# EAGLE library part ICM-20948 (library Deegou_IC)
Multiple Function Sensor Modules World's Lowest Power 9-Axis MEMS MotionTracking Device Source: Datasheet <https://www.invensense.com/wp-content/uploads/2016/06/DS-000189-ICM-20948-v1.3.pdf>
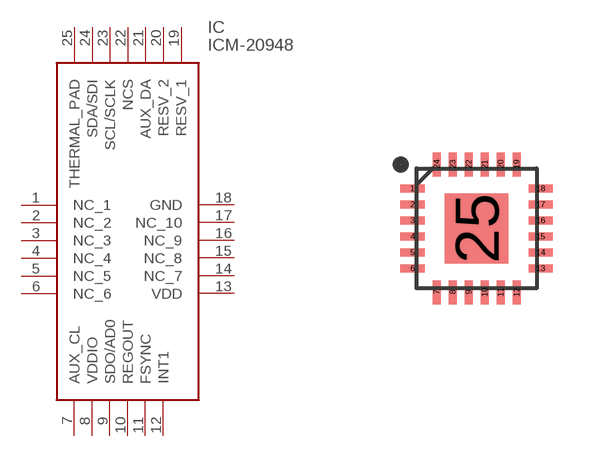
[diagram p51: symbol with the pads of QFN40P300X300X105-25N; footprint QFN40P300X300X105-25N]

Designator prefix IC

## ICM-20948 (ARROW_PART_NUMBER: ICM-20948; DESCRIPTION: Multiple Function Sensor Modules World's Lowest Power 9-Axis MEMS MotionTracking Device; HEIGHT: 1.05mm; MANUFACTURER_NAME: TDK InvenSense; MANUFACTURER_PART_NUMBER: ICM-20948)  [QFN40P300X300X105-25N]
1  NC_1
2  NC_2
3  NC_3
4  NC_4
5  NC_5
6  NC_6
7  AUX_CL
8  VDDIO
9  SDO/AD0
10  REGOUT
11  FSYNC
12  INT1
13  VDD
14  NC_7
15  NC_8
16  NC_9
17  NC_10
18  GND
19  RESV_1
20  RESV_2
21  AUX_DA
22  NCS
23  SCL/SCLK
24  SDA/SDI
25  THERMAL_PAD

## Footprint QFN40P300X300X105-25N (pad centres in mm)
QFN-24 - 3x3x0.9
smd 0.6 x 0.2: 1 -1.6,1; 2 -1.6,0.6; 3 -1.6,0.2; 4 -1.6,-0.2; 5 -1.6,-0.6; 6 -1.6,-1; 13 1.6,-1; 14 1.6,-0.6; 15 1.6,-0.2; 16 1.6,0.2; 17 1.6,0.6; 18 1.6,1
smd 0.2 x 0.6: 7 -1,-1.6; 8 -0.6,-1.6; 9 -0.2,-1.6; 10 0.2,-1.6; 11 0.6,-1.6; 12 1,-1.6; 19 1,1.6; 20 0.6,1.6; 21 0.2,1.6; 22 -0.2,1.6; 23 -0.6,1.6; 24 -1,1.6
smd 1.59 x 1.75: 25 0,0